# Altium footprint library diod_triod.PcbLib: 51 footprints (part 2 of 4)
Each footprint in its own frame and in the unit in brackets; x right, y up, seen from the top. Pads: shape width x height; smd on the part's side, far side on the other; paste and mask are expansions set on the pad; w line width, h text height; cw(c..) or ccw(c..) is an arc to the next point about the centre after c.
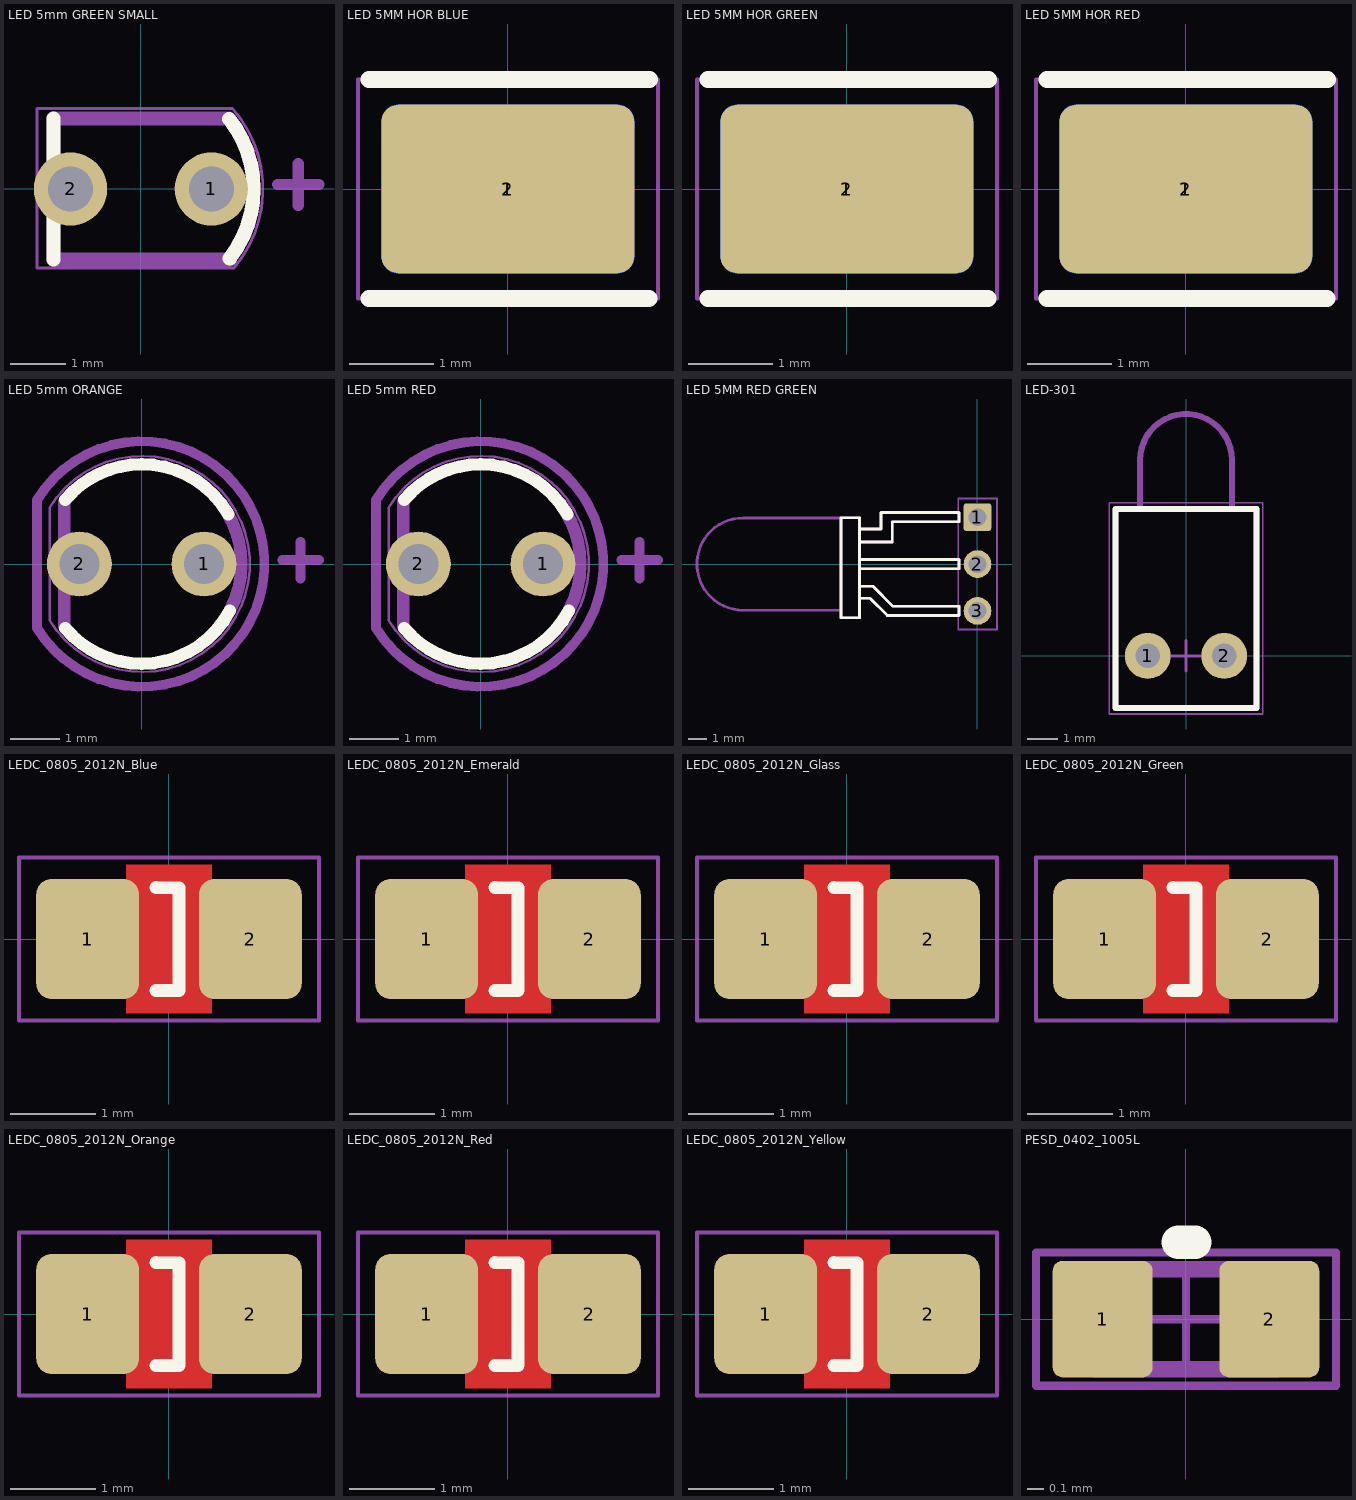
[diagram p1: the footprints below, top view; thin cyan lines are the x and y axes]

## LED 5mm GREEN SMALL [mil]
height 421.26
pads (2):
  round 52 hole 32: 1(50,0) 2(-50,0)
Top Overlay:
  lines w10: -62,-50 -62,50 ; 62.66,49.73 cw(c0,0) 80,0 cw(c0,0) 63.04,-49.25
Bottom Dimensions:
  lines w7.87: 96.9,3.14 126.43,3.14 ; 111.67,-11.62 111.67,17.91
  text ".Designator" at -71.85,70.86 h39.37
Top Assembly:
  lines w10: 62.66,49.73 cw(c0,0) 80,0 cw(c0,0) 63.04,-49.25 ; 62.66,50 -62,50 -62,-50 63.04,-50
Top Courtyard:
  lines w1.97: 64.96,57.08 -73.82,57.08 -73.82,-56.11 65.94,-56.11 ; 65.01,57.25 cw(c0.02,0) 66.31,-55.74
3D body "LED_Round_Green3_D5.0mm.step": height 850.39, standoff 275.59, extent -98.42,-116.14 116.15,116.14

## LED 5MM HOR BLUE [mm] "LED Diode, 2-Leads, Body 5 mm"
pads (2):
  rrect20% 3x2 smd: 1(0,0)
  rrect20% 3x2 smd far side: 2(0,0)
Top Overlay:
  lines w0.2: -1.65,-1.3 1.675,-1.3 ; -1.65,1.3 1.681,1.3
Bottom Overlay:
  lines w0.2: -1.65,-1.3 1.675,-1.3 ; -1.65,1.3 1.681,1.3
Top Courtyard:
  lines w0.05: -1.778,-1.3 -1.778,1.3 1.781,1.3 1.781,-1.3 -1.778,-1.3
  lines w0.1: 0.262,0 1.262,0 ; 0.762,-0.5 0.762,0.5
3D body "LED_Round_Blue_D5.0mm.step": height 2.72, standoff -2.73, extent -12.8,-3.125 1.8,2.775

## LED 5MM HOR GREEN [mm] "LED Diode, 2-Leads, Body 5 mm"
pads (2):
  rrect20% 3x2 smd: 1(0,0)
  rrect20% 3x2 smd far side: 2(0,0)
Top Overlay:
  lines w0.2: -1.65,-1.3 1.675,-1.3 ; -1.65,1.3 1.681,1.3
Bottom Overlay:
  lines w0.2: -1.65,-1.3 1.675,-1.3 ; -1.65,1.3 1.681,1.3
Top Courtyard:
  lines w0.05: -1.778,-1.3 -1.778,1.3 1.781,1.3 1.781,-1.3 -1.778,-1.3
  lines w0.1: 0.262,0 1.262,0 ; 0.762,-0.5 0.762,0.5
3D body "LED_Round_Green3_D5.0mm.step": height 2.72, standoff -2.73, extent -12.825,-2.975 1.775,2.925

## LED 5MM HOR RED [mm] "LED Diode, 2-Leads, Body 5 mm"
pads (2):
  rrect20% 3x2 smd: 1(0,0)
  rrect20% 3x2 smd far side: 2(0,0)
Top Overlay:
  lines w0.2: -1.65,-1.3 1.675,-1.3 ; -1.65,1.3 1.681,1.3
Bottom Overlay:
  lines w0.2: -1.65,-1.3 1.675,-1.3 ; -1.65,1.3 1.681,1.3
Top Courtyard:
  lines w0.05: -1.778,-1.3 1.781,-1.3 1.781,1.3 -1.778,1.3 -1.778,-1.3
  lines w0.1: 0.262,0 1.262,0 ; 0.762,-0.5 0.762,0.5
3D body "LED_Round_Red180_D5.0mm.step": height 2.72, standoff -2.73, extent -12.825,-3.05 1.775,2.85

## LED 5mm ORANGE [mil]
height 421.26
pads (2):
  round 52 hole 32: 1(50,0) 2(-50,0)
Top Overlay:
  lines w10: -61.28,-51.42 ccw(c0,0) 0,-80 ccw(c0,0) 70.63,-37.56 ; -61.29,51.42 cw(c0,0) 0,80 cw(c0,0) 69.28,40
Bottom Dimensions:
  lines w7.87: 112.65,3.14 142.18,3.14 ; 127.42,-11.62 127.42,17.91 ; -83.92,-51.43 ccw(c0,0) -83.92,51.43 -83.92,-51.43
  text ".Designator" at -72.83,115.16 h39.37
Top Assembly:
  lines w10: -62,-50 -62,50 ; 67.84,42.4 cw(c0,0) 80,0 cw(c0,0) 70.64,-37.56
Top Courtyard:
  lines w1.97: -73.83,-45.26 ccw(c0.02,0) -73.83,45.26 ; -73.82,-45.28 -73.82,45.28
3D body "LED_Round_Orange_D5.0mm.step": height 417.32, standoff -157.48, extent -98.42,-116.13 116.15,116.15

## LED 5mm RED [mil]
height 421.26
pads (2):
  round 52 hole 32: 1(50,0) 2(-50,0)
Top Overlay:
  lines w10: -61.28,-51.42 ccw(c0,0) 0,-80 ccw(c0,0) 70.63,-37.56 ; -61.29,51.42 cw(c0,0) 0,80 cw(c0,0) 69.28,40
Bottom Dimensions:
  lines w7.87: 112.65,3.14 142.18,3.14 ; 127.42,-11.62 127.42,17.91 ; -83.92,-51.43 ccw(c0,0) -83.92,51.43 -83.92,-51.43
  text ".Designator" at -72.83,117.13 h39.37
Top Assembly:
  lines w10: -62,-50 -62,50 ; 67.84,42.4 cw(c0,0) 80,0 cw(c0,0) 70.64,-37.56
Top Courtyard:
  lines w1.97: -73.83,-45.26 ccw(c0.02,0) -73.83,45.26 ; -73.82,-45.28 -73.82,45.28
3D body "LED_Round_Red180_D5.0mm.step": height 417.32, standoff -157.48, extent -98.42,-116.13 116.15,116.15

## LED 5MM RED GREEN [mm] "5mm Red / Green Common Cathode LED"
pads (3):
  rrect20% 1.5x1.5 hole 0.95: 1(0,2.54)
  round 1.5 hole 0.95: 2(0,0) 3(0,-2.54)
Top Overlay:
  lines w0.15: -6.401,-2.892 -6.401,2.504 -7.401,2.504 -7.401,-1.9 -7.401,-2.15 -7.402,-2.904 -6.399,-2.904 ; -6.4,-1.854 -5.813,-1.854 ; -6.4,-1.204 -5.671,-1.204 -4.584,-2.29 -1,-2.29 -1,-2.54 -1,-2.79 -4.885,-2.79 -5.813,-1.862 ; -6.4,-0.25 -1,-0.25 -1,0 -1,0.25 -6.4,0.25 ; -6.4,1.201 -4.625,1.201 -4.625,2.287 ; -6.399,1.9 -5.225,1.9 -5.225,2.79 -4.56,2.79 -1,2.79 -1,2.54 -1,2.29 -4.625,2.29 ; -4.36,-2.29 -3.825,-2.29
Top Designator:
  text ".Designator" at -3.399,4 h0.6
Top Assembly:
  lines w0.15: -7.436,-2.503 -12.464,-2.503 -12.467,-2.5 -12.7,-2.5 cw(c-12.7,0) -12.7,2.5 -12.698,2.498 -7.414,2.498 ; -6.401,-2.892 -6.401,2.504 -7.401,2.504 -7.401,-1.9 -7.401,-2.15 -7.402,-2.904 -6.399,-2.904 ; -6.4,-1.854 -5.813,-1.854 ; -6.4,-1.204 -5.671,-1.204 -4.584,-2.29 -1,-2.29 -1,-2.54 -1,-2.79 -4.885,-2.79 -5.813,-1.862 ; -6.4,-0.25 -1,-0.25 -1,0 -1,0.25 -6.4,0.25 ; -6.4,1.201 -4.625,1.201 -4.625,2.287 ; -6.399,1.9 -5.225,1.9 -5.225,2.79 -4.56,2.79 -1,2.79 -1,2.54 -1,2.29 -4.625,2.29 ; -4.36,-2.29 -3.825,-2.29
Top Courtyard:
  lines w0.1: -0.5,0 0.5,0 ; 0,-0.5 0,0.5 ; -1.04,-3.555 1.057,-3.555 1.057,3.56 -1.04,3.56 -1.04,-3.555
3D body "5mm.stp": height 6.45, standoff 0.25, extent -15.25,-2.925 0.35,2.815

## LED-301 [mm]
pads (2):
  round 1.5 hole 0.8 paste-2539.97: 1(-1.25,0) 2(1.25,0)
Top Overlay:
  lines w0.2: -2.3,-1.7 0,-1.7 2.3,-1.7 2.3,4.8 -2.3,4.8 -2.3,-1.7
Top Designator:
  text ".Designator" at -3.05,-2.199 h0.6
Top Assembly:
  lines w0.2: -1.5,4.8 -1.5,6.426 ; -1.5,6.401 cw(c0,6.401) 1.5,6.401 ; 1.5,4.8 1.5,6.452 ; -2.3,-1.7 -2.3,4.8 2.3,4.8 2.3,-1.7 -2.3,-1.7
Top Courtyard:
  lines w0.05: -2.5,-1.9 -2.5,5 2.5,5 2.5,-1.9 -2.5,-1.9
  lines w0.1: -0.5,0 0.5,0 ; 0,-0.5 0,0.5
3D body "FIX-LED-301.step": height 7.4, standoff 0, extent -2.266,-1.725 2.334,8.075

## LEDC_0805_2012N_Blue [mm] "Chip LED Blue, Body 2x1.25x1.1mm, IPC Medium Density"
height 1.1
pads (2):
  rrect30% 1.2x1.4 smd: 1(-0.95,0) 2(0.95,0)
Top Layer:
  pour cut-out: -0.5,0.864 0.5,0.864 0.5,-0.864 -0.5,-0.864
Top Overlay:
  lines w0.15: -0.15,-0.6 0.117,-0.601 0.117,0.599 -0.15,0.6
Top Designator:
  text ".Designator" at -2.999,1.5 h0.6
Top Assembly:
  rectangle: 0.337,-0.625 1,0.6
  lines w0.15: -1,-0.625 -1,0.625 1,0.625 1,-0.625 -1,-0.625
Top Courtyard:
  lines w0.05: -1.75,-0.95 1.75,-0.95 1.75,0.95 -1.75,0.95 -1.75,-0.95
  lines w0.1: -0.5,0 0.5,0 ; 0,-0.5 0,0.5
3D body "LED-0805-blue.step": height 0.8, standoff -0.01, extent -1,-0.625 1,0.625

## LEDC_0805_2012N_Emerald [mm] "Chip LED Emerald, Body 2x1.25x1.1mm, IPC Medium Density"
height 1.1
pads (2):
  rrect30% 1.2x1.4 smd: 1(-0.95,0) 2(0.95,0)
Top Layer:
  pour cut-out: -0.5,0.864 0.5,0.864 0.5,-0.864 -0.5,-0.864
Top Overlay:
  lines w0.15: -0.15,-0.6 0.117,-0.601 0.117,0.599 -0.15,0.6
Top Designator:
  text ".Designator" at -2.999,1.5 h0.6
Top Assembly:
  rectangle: 0.32,-0.625 1,0.6
  lines w0.15: -1,-0.625 -1,0.625 1,0.625 1,-0.625 -1,-0.625
Top Courtyard:
  lines w0.05: -1.75,-0.95 1.75,-0.95 1.75,0.95 -1.75,0.95 -1.75,-0.95
  lines w0.1: -0.5,0 0.5,0 ; 0,-0.5 0,0.5
3D body "LED-0805-emerald.step": height 0.8, standoff -0.01, extent -0.975,-0.625 1.025,0.625

## LEDC_0805_2012N_Glass [mm] "Chip LED Glass, Body 2x1.25x1.1mm, IPC Medium Density"
height 1.1
pads (2):
  rrect30% 1.2x1.4 smd: 1(-0.95,0) 2(0.95,0)
Top Layer:
  pour cut-out: -0.5,0.864 0.5,0.864 0.5,-0.864 -0.5,-0.864
Top Overlay:
  lines w0.15: -0.15,-0.6 0.117,-0.601 0.117,0.599 -0.15,0.6
Top Designator:
  text ".Designator" at -2.999,1.5 h0.6
Top Assembly:
  rectangle: 0.304,-0.625 1,0.6
  lines w0.15: -1,-0.625 -1,0.625 1,0.625 1,-0.625 -1,-0.625
Top Courtyard:
  lines w0.05: -1.75,-0.95 1.75,-0.95 1.75,0.95 -1.75,0.95 -1.75,-0.95
  lines w0.1: -0.5,0 0.5,0 ; 0,-0.5 0,0.5
3D body "LED-0805-glass.step": height 0.8, standoff -0.01, extent -1,-0.625 1,0.625

## LEDC_0805_2012N_Green [mm] "Chip LED Green, Body 2x1.25x1.1mm, IPC Medium Density"
height 1.1
pads (2):
  rrect30% 1.2x1.4 smd: 1(-0.95,0) 2(0.95,0)
Top Layer:
  pour cut-out: -0.5,0.864 0.5,0.864 0.5,-0.864 -0.5,-0.864
Top Overlay:
  lines w0.15: -0.15,-0.6 0.117,-0.601 0.117,0.599 -0.15,0.6
Top Designator:
  text ".Designator" at -2.999,1.5 h0.6
Top Assembly:
  rectangle: 0.308,-0.625 1,0.6
  lines w0.15: -1,-0.625 -1,0.625 1,0.625 1,-0.625 -1,-0.625
Top Courtyard:
  lines w0.05: -1.75,-0.95 1.75,-0.95 1.75,0.95 -1.75,0.95 -1.75,-0.95
  lines w0.1: -0.5,0 0.5,0 ; 0,-0.5 0,0.5
3D body "LED-0805-green.step": height 0.8, standoff -0.01, extent -1,-0.625 1,0.625

## LEDC_0805_2012N_Orange [mm] "Chip LED Orange, Body 2x1.25x1.1mm, IPC Medium Density"
height 1.1
pads (2):
  rrect30% 1.2x1.4 smd: 1(-0.95,0) 2(0.95,0)
Top Layer:
  pour cut-out: -0.5,0.864 0.5,0.864 0.5,-0.864 -0.5,-0.864
Top Overlay:
  lines w0.15: -0.15,-0.6 0.117,-0.601 0.117,0.599 -0.15,0.6
Top Designator:
  text ".Designator" at -2.999,1.5 h0.6
Top Assembly:
  rectangle: 0.304,-0.625 1,0.6
  lines w0.15: -1,-0.625 -1,0.625 1,0.625 1,-0.625 -1,-0.625
Top Courtyard:
  lines w0.05: -1.75,-0.95 1.75,-0.95 1.75,0.95 -1.75,0.95 -1.75,-0.95
  lines w0.1: -0.5,0 0.5,0 ; 0,-0.5 0,0.5
3D body "LED-0805-orange.step": height 0.8, standoff -0.01, extent -1,-0.625 1,0.625

## LEDC_0805_2012N_Red [mm] "Chip Red Green, Body 2x1.25x1.1mm, IPC Medium Density"
height 1.1
pads (2):
  rrect30% 1.2x1.4 smd: 1(-0.95,0) 2(0.95,0)
Top Layer:
  pour cut-out: -0.5,0.864 0.5,0.864 0.5,-0.864 -0.5,-0.864
Top Overlay:
  lines w0.15: -0.15,-0.6 0.117,-0.601 0.117,0.599 -0.15,0.6
Top Designator:
  text ".Designator" at -2.999,1.5 h0.6
Top Assembly:
  rectangle: 0.304,-0.625 1,0.6
  lines w0.15: -1,-0.625 -1,0.625 1,0.625 1,-0.625 -1,-0.625
Top Courtyard:
  lines w0.05: -1.75,-0.95 1.75,-0.95 1.75,0.95 -1.75,0.95 -1.75,-0.95
  lines w0.1: -0.5,0 0.5,0 ; 0,-0.5 0,0.5
3D body "LED-0805-red.step": height 0.8, standoff -0.01, extent -1,-0.625 1,0.625

## LEDC_0805_2012N_Yellow [mm] "Chip LED Yellow, Body 2x1.25x1.1mm, IPC Medium Density"
height 1.1
pads (2):
  rrect30% 1.2x1.4 smd: 1(-0.95,0) 2(0.95,0)
Top Layer:
  pour cut-out: -0.5,0.864 0.5,0.864 0.5,-0.864 -0.5,-0.864
Top Overlay:
  lines w0.15: -0.15,-0.6 0.117,-0.601 0.117,0.599 -0.15,0.6
Top Designator:
  text ".Designator" at -2.999,1.5 h0.6
Top Assembly:
  rectangle: 0.312,-0.625 1,0.6
  lines w0.15: -1,-0.625 1,-0.625 1,0.625 -1,0.625 -1,-0.625
Top Courtyard:
  lines w0.05: -1.75,-0.95 -1.75,0.95 1.75,0.95 1.75,-0.95 -1.75,-0.95
  lines w0.1: -0.5,0 0.5,0 ; 0,-0.5 0,0.5
3D body "LED-0805-yellow.step": height 0.8, standoff -0.01, extent -1,-0.625 1,0.625

## PESD_0402_1005L [mm] "Chip Tvs Diode Surface Mount, Body 1.1x0.5mm, IPC High Density"
height 0.4
pads (2):
  rrect20% 0.6x0.7 smd: 1(-0.5,0) 2(0.5,0)
Top Overlay:
  lines w0.2: -0.046,0.461 0.054,0.461
Top Designator:
  text ".Designator" at -2.799,0.7 h0.6
Top Assembly:
  lines w0.1: -0.55,-0.3 0.55,-0.3 0.55,0.3 -0.55,0.3 -0.55,-0.3
Top Courtyard:
  lines w0.05: -0.3,0 0.3,0 ; 0,-0.3 0,0.3 ; -0.9,-0.4 0.9,-0.4 0.9,0.4 -0.9,0.4 -0.9,-0.4
3D body "PESD0402-140.stp": height 0.43, standoff 0, extent -0.5,-0.25 0.5,0.25